# EAGLE library part DSPIC33FJ12GP201-I/SO (library Microchip_By_element14_Batch_1)
16-bit Digital Signal Controllers
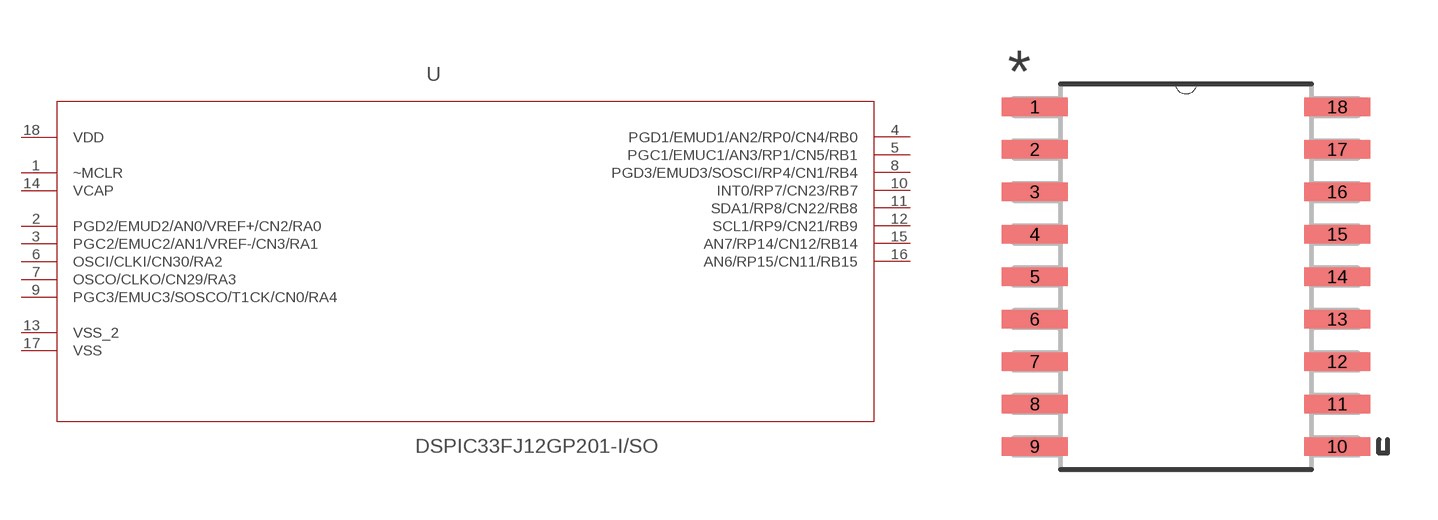
[diagram p369: symbol with the pads of SOIC127P1030X265-18N; footprint SOIC127P1030X265-18N]

Designator prefix -

## DSPIC33FJ12GP201-I/SO (MPN: DSPIC33FJ12GP201-I/SO; OC_FARNELL: 1439604; OC_NEWARK: 16M5786; PACKAGE: SOIC-18; SUPPLIER: Microchip)  [SOIC127P1030X265-18N]
1  ~MCLR  in
2  PGD2/EMUD2/AN0/VREF+/CN2/RA0
3  PGC2/EMUC2/AN1/VREF-/CN3/RA1
4  PGD1/EMUD1/AN2/RP0/CN4/RB0
5  PGC1/EMUC1/AN3/RP1/CN5/RB1
6  OSCI/CLKI/CN30/RA2
7  OSCO/CLKO/CN29/RA3
8  PGD3/EMUD3/SOSCI/RP4/CN1/RB4
9  PGC3/EMUC3/SOSCO/T1CK/CN0/RA4
10  INT0/RP7/CN23/RB7
11  SDA1/RP8/CN22/RB8
12  SCL1/RP9/CN21/RB9
13  VSS_2  pwr
14  VCAP  pwr
15  AN7/RP14/CN12/RB14
16  AN6/RP15/CN11/RB15
17  VSS  pwr
18  VDD  pwr

## Footprint SOIC127P1030X265-18N (pad centres in mm)
smd 1.981 x 0.559: 1 -4.521,5.08; 2 -4.521,3.81; 3 -4.521,2.54; 4 -4.521,1.27; 5 -4.521,0; 6 -4.521,-1.27; 7 -4.521,-2.54; 8 -4.521,-3.81; 9 -4.521,-5.08; 10 4.521,-5.08; 11 4.521,-3.81; 12 4.521,-2.54; 13 4.521,-1.27; 14 4.521,0; 15 4.521,1.27; 16 4.521,2.54; 17 4.521,3.81; 18 4.521,5.08